# Altium schematic symbol library D2HW-BR231.SchLib: 1 symbol
Pins are listed as number, name and electrical type; pins without a type are passive.

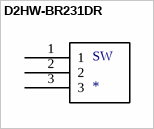
[diagram p0: symbol D2HW-BR231DR]

## D2HW-BR231DR
designator SW
pins: 1, 2, 3